# Altium footprint library 511.PcbLib: 9 footprints
Each footprint in its own frame and in the unit in brackets; x right, y up, seen from the top. Pads: shape width x height; smd on the part's side, far side on the other; paste and mask are expansions set on the pad; w line width, h text height; cw(c..) or ccw(c..) is an arc to the next point about the centre after c.
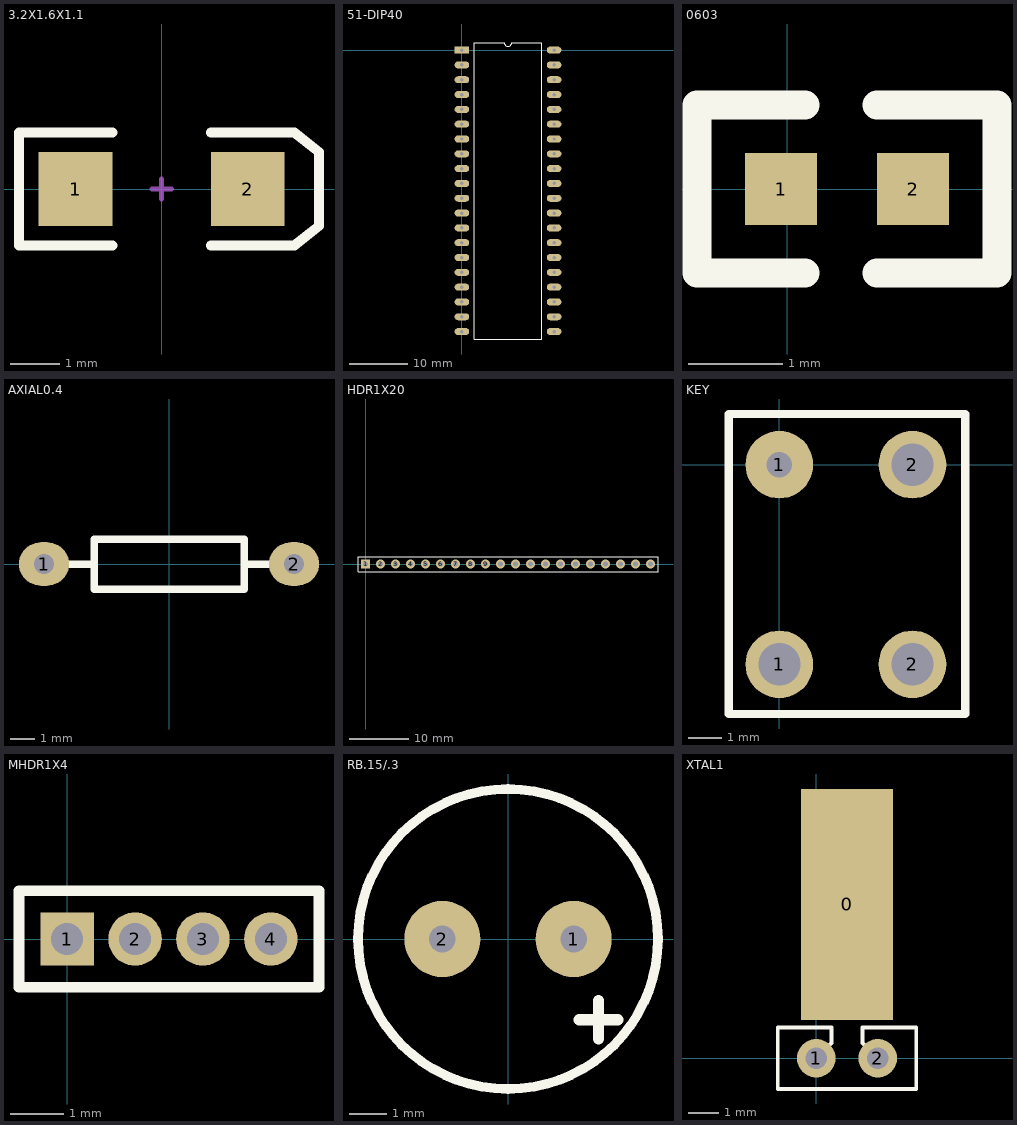
[diagram p0: the footprints below, top view; thin cyan lines are the x and y axes]

## 3.2X1.6X1.1 [mm]
pads (2):
  rect 1.5x1.5 smd: 1(-1.75,0) 2(1.75,0)
Top Overlay:
  lines w0.2: -1,-1.15 -2.9,-1.15 -2.9,1.15 -1,1.15 ; 1,-1.15 2.7,-1.15 3.2,-0.75 3.2,0.75 2.7,1.15 1,1.15
Mechanical 1:
  lines w0.1: -0.2,0 0.2,0 ; 0,-0.2 0,0.2

## 51-DIP40 [mm]
pads (40):
  rect 2.5x1.2 hole 0.6: 1(0,0)
  oval 2.5x1.2 hole 0.6: 2(0,-2.54) 3(0,-5.08) 4(0,-7.62) 5(0,-10.16) 6(0,-12.7) 7(0,-15.24) 8(0,-17.78) 9(0,-20.32) 10(0,-22.86) 11(0,-25.4) 12(0,-27.94) 13(0,-30.48) 14(0,-33.02) 15(0,-35.56) 16(0,-38.1) 17(0,-40.64) 18(0,-43.18) 19(0,-45.72) 20(0,-48.26) 21(15.8,-48.26) 22(15.8,-45.72) 23(15.8,-43.18) 24(15.8,-40.64) 25(15.8,-38.1) 26(15.8,-35.56) 27(15.8,-33.02) 28(15.8,-30.48) 29(15.8,-27.94) 30(15.8,-25.4) 31(15.8,-22.86) 32(15.8,-20.32) 33(15.8,-17.78) 34(15.8,-15.24) 35(15.8,-12.7) 36(15.8,-10.16) 37(15.8,-7.62) 38(15.8,-5.08) 39(15.8,-2.54) 40(15.8,0)
Top Overlay:
  lines w0.2: 2.085,-49.53 13.715,-49.53 13.715,1.27 8.535,1.27 cw(c7.9,1.27) 7.265,1.27 2.085,1.27 2.085,-49.53

## 0603 [mil]
pads (2):
  rect 30x30 smd: 1(-2.5,0) 2(52.5,0)
Top Overlay:
  lines w12: 7.5,-35 -37.5,-35 -37.5,35 7.5,35 ; 37.5,-35 87.5,-35 87.5,35 37.5,35

## AXIAL0.4 [mil]
pads (2):
  oval 80x70 hole 32: 1(-200,0) 2(200,0)
Top Overlay:
  lines w12: -160,0 -120,0 ; 120,0 160,0 ; -120,-40 120,-40 120,40 -120,40 -120,-40

## HDR1X20 [mm]
pads (20):
  rect 1.5x1.5 hole 0.9: 1(0,0)
  round 1.5 hole 0.9: 2(2.54,0) 3(5.08,0) 4(7.62,0) 5(10.16,0) 6(12.7,0) 7(15.24,0) 8(17.78,0) 9(20.32,0) 10(22.86,0) 11(25.4,0) 12(27.94,0) 13(30.48,0) 14(33.02,0) 15(35.56,0) 16(38.1,0) 17(40.64,0) 18(43.18,0) 19(45.72,0) 20(48.26,0)
Top Overlay:
  lines w0.2: -1.27,-1.27 -1.27,1.27 0.635,1.27 49.53,1.27 49.53,-1.27 -1.27,-1.27

## KEY [mil]
pads (4):
  round 80 hole 50: 1(0,-236.22) 2(157.48,-236.22) 2(157.48,0)
  round 80 hole 30: 1(0,0)
Top Overlay:
  lines w10: -60,-295 220,-295 220,60 -60,60 -60,-295

## MHDR1X4 [mm]
pads (4):
  rect 1x1 hole 0.6: 1(0,0)
  round 1 hole 0.6: 2(1.27,0) 3(2.54,0) 4(3.81,0)
Top Overlay:
  lines w0.2: -0.9,-0.9 -0.9,0.9 4.71,0.9 4.71,-0.9 -0.9,-0.9

## RB.15/.3 [mil]
pads (2):
  round 80 hole 28: 1(68.9,0) 2(-68.9,0)
Top Overlay:
  circle w10: c0,0 r157.48
  lines w12: 75,-85 115,-85 ; 95,-105 95,-65

## XTAL1 [mil]
pads (3):
  rect 120x300 smd: 0(40,200)
  round 50 hole 28: 1(0,0) 2(80,0)
Top Overlay:
  lines w5: 0,0 20,20 20,40 -50,40 -50,0 -50,-40 130,-40 130,40 60,40 60,20 80,0